# EAGLE library part 0524372471 (library 0524372471)
Conn FPC Connector SKT 24 POS 0.5mm Solder RA SMD Easy-On T/R Source: Datasheet <https://www.molex.com/pdm_docs/sd/524372171_sd.pdf>
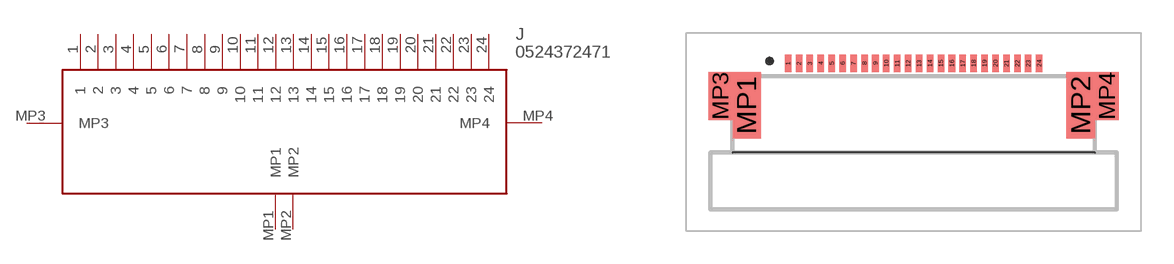
[diagram p0: symbol with the pads of 0524372471; footprint 0524372471]

Designator prefix J

## 0524372471 (Arrow_Part_Number: 0524372471; Arrow_Price-Stock: https://www.arrow.com/en/products/0524372471/molex; Description: Conn FPC Connector SKT 24 POS 0.5mm Solder RA SMD Easy-On T/R; Height: 2.2mm; Manufacturer_Name: Molex; Manufacturer_Part_Number: 0524372471; Mouser_Part_Number: N/A; Mouser_Price-Stock: https://www.mouser.co.uk/ProductDetail/Molex/0524372471?qs=PBcRNPEHKspMGfgyTEmuOQ%3D%3D)  [0524372471]
1  1
2  2
3  3
4  4
5  5
6  6
7  7
8  8
9  9
10  10
11  11
12  12
13  13
14  14
15  15
16  16
17  17
18  18
19  19
20  20
21  21
22  22
23  23
24  24
MP1  MP1
MP2  MP2
MP3  MP3
MP4  MP4

## Footprint 0524372471 (pad centres in mm)
0524372471-1
smd 0.3 x 0.8: 1 -5.75,1.925; 2 -5.25,1.925; 3 -4.75,1.925; 4 -4.25,1.925; 5 -3.75,1.925; 6 -3.25,1.925; 7 -2.75,1.925; 8 -2.25,1.925; 9 -1.75,1.925; 10 -1.25,1.925; 11 -0.75,1.925; 12 -0.25,1.925; 13 0.25,1.925; 14 0.75,1.925; 15 1.25,1.925; 16 1.75,1.925; 17 2.25,1.925; 18 2.75,1.925; 19 3.25,1.925; 20 3.75,1.925; 21 4.25,1.925; 22 4.75,1.925; 23 5.25,1.925; 24 5.75,1.925
smd 1.3 x 3.05: MP1 -7.65,0; MP2 7.65,0
smd 1.1 x 2.2: MP3 -8.85,0.425; MP4 8.85,0.425